# Altium schematic symbol library SCH - MCU - NUVOTON - NUVOTON M252FC2AE.SchLib: 1 symbol
Pins are listed as number, name and electrical type; pins without a type are passive.

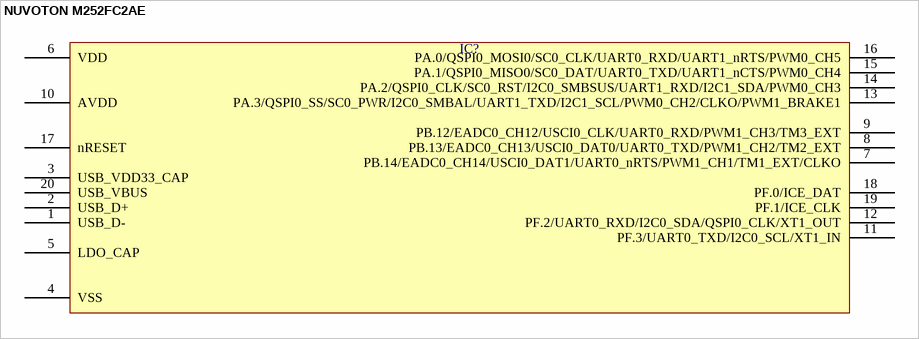
[diagram p0: symbol NUVOTON M252FC2AE]

## NUVOTON M252FC2AE
designator IC?  (value not drawn)
pins: 1 USB_D-, 2 USB_D+, 3 USB_VDD33_CAP, 4 VSS, 5 LDO_CAP, 6 VDD, 7 PB.14/EADC0_CH14/USCI0_DAT1/UART0_nRTS/PWM1_CH1/TM1_EXT/CLKO, 8 PB.13/EADC0_CH13/USCI0_DAT0/UART0_TXD/PWM1_CH2/TM2_EXT, 9 PB.12/EADC0_CH12/USCI0_CLK/UART0_RXD/PWM1_CH3/TM3_EXT, 10 AVDD, 11 PF.3/UART0_TXD/I2C0_SCL/XT1_IN, 12 PF.2/UART0_RXD/I2C0_SDA/QSPI0_CLK/XT1_OUT, 13 PA.3/QSPI0_SS/SC0_PWR/I2C0_SMBAL/UART1_TXD/I2C1_SCL/PWM0_CH2/CLKO/PWM1_BRAKE1, 14 PA.2/QSPI0_CLK/SC0_RST/I2C0_SMBSUS/UART1_RXD/I2C1_SDA/PWM0_CH3, 15 PA.1/QSPI0_MISO0/SC0_DAT/UART0_TXD/UART1_nCTS/PWM0_CH4, 16 PA.0/QSPI0_MOSI0/SC0_CLK/UART0_RXD/UART1_nRTS/PWM0_CH5, 17 nRESET, 18 PF.0/ICE_DAT, 19 PF.1/ICE_CLK, 20 USB_VBUS